# Altium footprint library BLDC_Footprint_Library.PcbLib: 16 footprints
Each footprint in its own frame and in the unit in brackets; x right, y up, seen from the top. Pads: shape width x height; smd on the part's side, far side on the other; paste and mask are expansions set on the pad; w line width, h text height; cw(c..) or ccw(c..) is an arc to the next point about the centre after c.
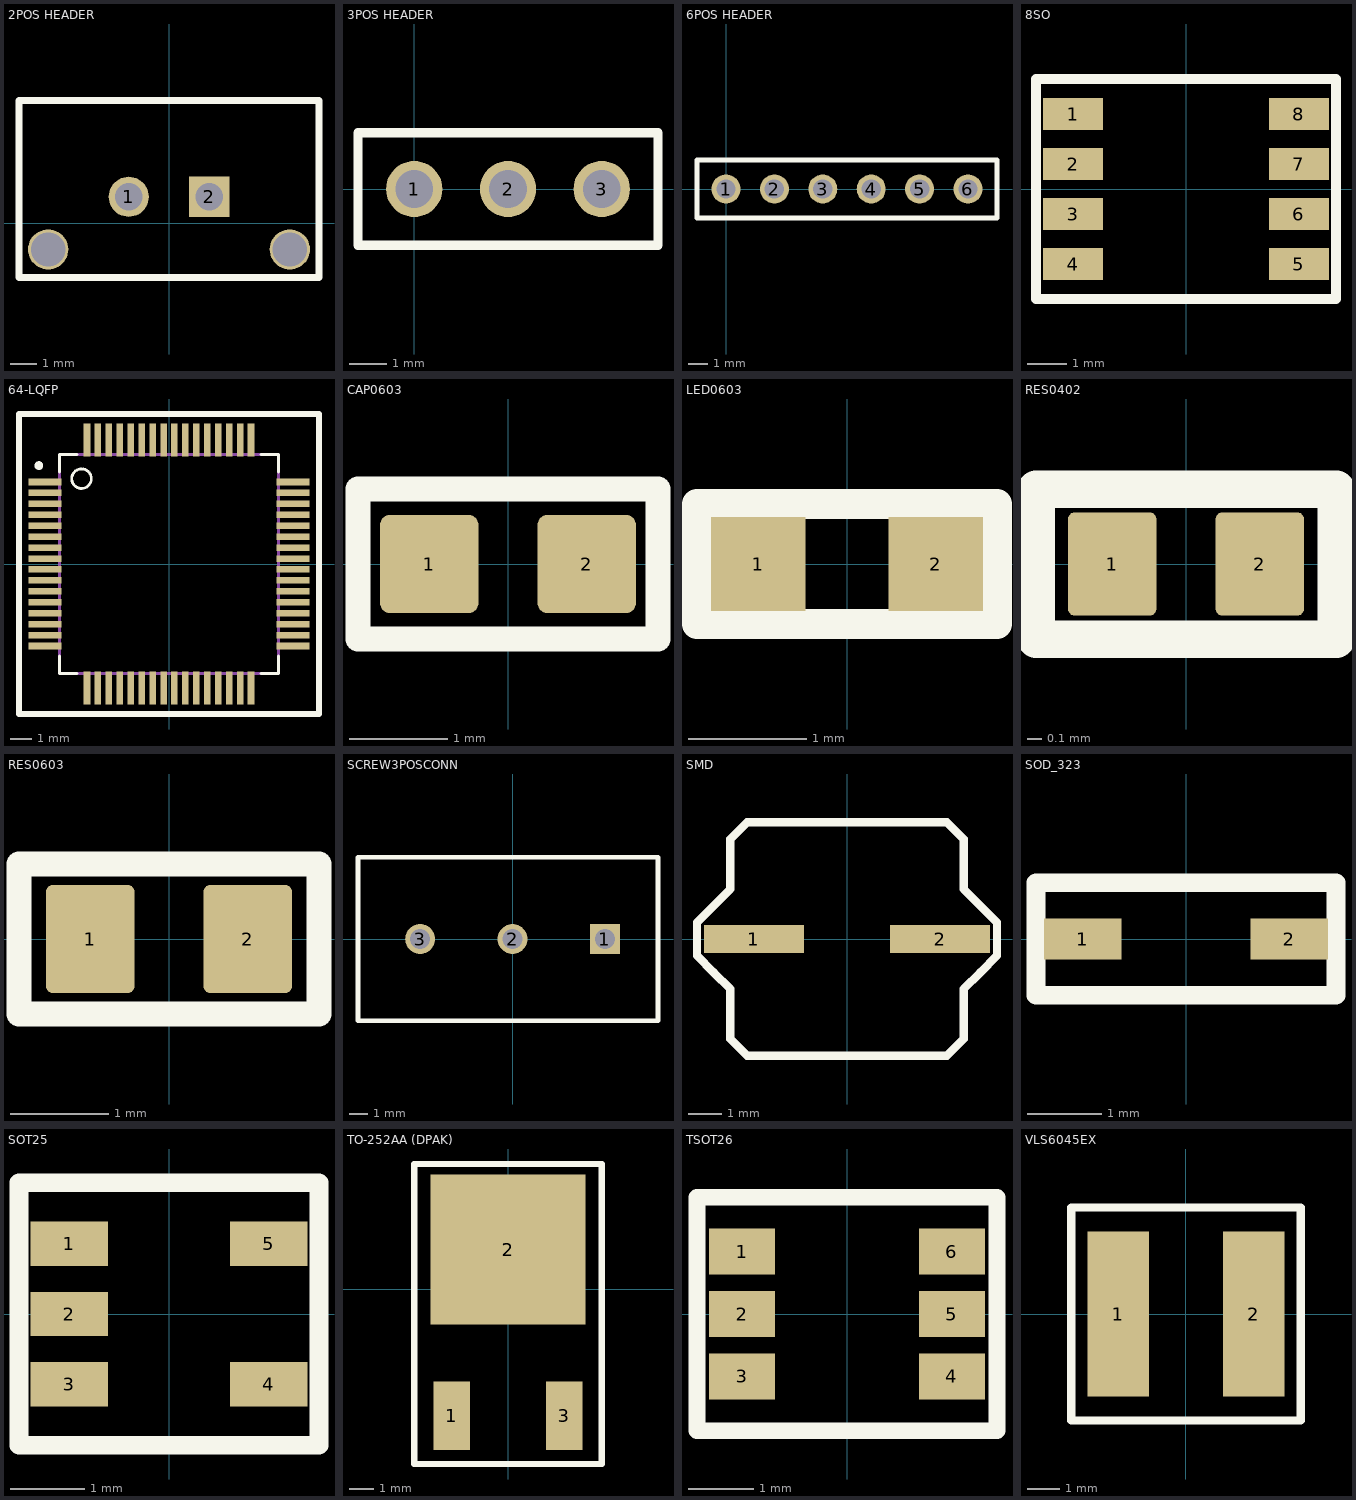
[diagram p0: the footprints below, top view; thin cyan lines are the x and y axes]

## 2POS HEADER [mm] "2 male connectors"
pads (4):
  round 1.5 hole 1.02: 1(-1.5,0.98)
  rect 1.5x1.5 hole 1.02: 2(1.5,0.98)
  round 1.5 hole 1.27: ""(-4.5,-0.98) ""(4.5,-0.98)
Top Overlay:
  lines w0.254: -5.588,-2.032 5.588,-2.032 5.588,4.572 -5.588,4.572 -5.588,-2.032
3D body "436500215.step": height 9.95, standoff -3.13, extent -4.825,-1.47 4.825,4.135

## 3POS HEADER [mil]
pads (3):
  round 60 hole 40.16: 1(0,0) 2(100,0) 3(200,0)
Top Overlay:
  lines w10: -60,-60 260,-60 260,60 -60,60 -60,-60
3D body "22-28-4033_MOL.step": height 450, standoff -200, extent -50,-49.02 250,49.02

## 6POS HEADER [mil] "CONN HEADER VERT 6POS 2.54MM"
pads (6):
  round 60 hole 40.16: 1(0,0) 2(100,0) 3(200,0) 4(300,0) 5(400,0) 6(500,0)
Top Overlay:
  lines w10: -60,-60 -60,60 560,60 560,-60 -60,-60
3D body "PH1-06-UA.step": height 334.65, standoff -120.08, extent -50,-49.21 550,49.21

## 8SO [mil] "Surface mount IC 6.5x4.612mm"
pads (8):
  rect 60x31.57 smd: 1(-112.95,75) 2(-112.95,25) 3(-112.95,-25) 4(-112.95,-75) 5(112.95,-75) 6(112.95,-25) 7(112.95,25) 8(112.95,75)
Top Overlay:
  lines w10: -150,-110 150,-110 150,110 -150,110 -150,-110
3D body "SO-8_STM.step": height 69.09, standoff 0, extent -122.01,-98.5 122.01,98.5

## 64-LQFP [mm]
pads (64):
  rect 1.5x0.3 smd: 1(-5.67,3.75) 2(-5.67,3.25) 3(-5.67,2.75) 4(-5.67,2.25) 5(-5.67,1.75) 6(-5.67,1.25) 7(-5.67,0.75) 8(-5.67,0.25) 9(-5.67,-0.25) 10(-5.67,-0.75) 11(-5.67,-1.25) 12(-5.67,-1.75) 13(-5.67,-2.25) 14(-5.67,-2.75) 15(-5.67,-3.25) 16(-5.67,-3.75) 33(5.67,-3.75) 34(5.67,-3.25) 35(5.67,-2.75) 36(5.67,-2.25) 37(5.67,-1.75) 38(5.67,-1.25) 39(5.67,-0.75) 40(5.67,-0.25) 41(5.67,0.25) 42(5.67,0.75) 43(5.67,1.25) 44(5.67,1.75) 45(5.67,2.25) 46(5.67,2.75) 47(5.67,3.25) 48(5.67,3.75)
  rect 0.3x1.5 smd: 17(-3.75,-5.67) 18(-3.25,-5.67) 19(-2.75,-5.67) 20(-2.25,-5.67) 21(-1.75,-5.67) 22(-1.25,-5.67) 23(-0.75,-5.67) 24(-0.25,-5.67) 25(0.25,-5.67) 26(0.75,-5.67) 27(1.25,-5.67) 28(1.75,-5.67) 29(2.25,-5.67) 30(2.75,-5.67) 31(3.25,-5.67) 32(3.75,-5.67) 49(3.75,5.67) 50(3.25,5.67) 51(2.75,5.67) 52(2.25,5.67) 53(1.75,5.67) 54(1.25,5.67) 55(0.75,5.67) 56(0.25,5.67) 57(-0.25,5.67) 58(-0.75,5.67) 59(-1.25,5.67) 60(-1.75,5.67) 61(-2.25,5.67) 62(-2.75,5.67) 63(-3.25,5.67) 64(-3.75,5.67)
Top Overlay:
  circle w0.127: c-4,3.9 r0.447
  circle w0.2: c-5.95,4.5 r0.1
  lines w0.127: -5,-4.2 -5,-5 -4.2,-5 ; -5,4.2 -5,5 -4.2,5 ; 4.2,-5 5,-5 5,-4.2 ; 4.2,5 5,5 5,4.2
  lines w0.254: -6.858,-6.858 -6.858,6.858 6.858,6.858 6.858,-6.858 -6.858,-6.858
Mechanical 13:
  lines w0.127: -5,-5 5,-5 5,5 -5,5 -5,-5
Mechanical 15:
  lines w0.05: -6.75,-6.75 6.75,-6.75 6.75,6.75 -6.75,6.75 -6.75,-6.75
3D body "STM32F401RET6.step": height 1.6, standoff 0, extent -6,-6 6,6

## CAP0603 [mm] "0.063\" L x 0.031\" W (1.60mm x 0.80mm)"
pads (2):
  rrect20% 1x1 smd: 1(-0.8,0) 2(0.8,0)
Top Overlay:
  lines w0.254: -1.524,-0.762 -1.524,0.762 1.524,0.762 1.524,-0.762 -1.524,-0.762
3D body "CAP_GCM188_MUR.step": height 0.89, standoff 0, extent -0.851,-0.444 0.851,0.444

## LED0603 [mm] "0603 LED"
pads (2):
  rect 0.8x0.8 smd: 1(-0.75,0) 2(0.75,0)
Top Overlay:
  lines w0.254: -1.27,-0.508 -1.27,0.508 1.27,0.508 1.27,-0.508 -1.27,-0.508
3D body "LED_B1911PG--20D000514U1930_HVK.step": height 0.61, standoff 0, extent -0.8,-0.406 0.8,0.406

## RES0402 [mm] "Chip Resistor, Body 1x0.5mm, IPC Medium Density"
pads (2):
  rrect15% 0.6x0.7 smd: 1(-0.5,0) 2(0.5,0)
Top Overlay:
  lines w0.254: -1.016,-0.508 1.016,-0.508 1.016,0.508 -1.016,0.508 -1.016,-0.508
3D body "User Library-R SMD 0402.STEP": height 0.27, standoff -0.08, extent -0.5,-0.25 0.5,0.25

## RES0603 [mm] "Chip Resistor, Body 1.6x0.8mm, IPC Medium Density"
height 0.6
pads (2):
  rrect15% 0.9x1.1 smd: 1(-0.8,0) 2(0.8,0)
Top Overlay:
  lines w0.254: -1.524,-0.762 1.524,-0.762 1.524,0.762 -1.524,0.762 -1.524,-0.762
3D body "0603.step": height 0.46, standoff 0.01, extent -0.8,-0.4 0.8,0.4

## SCREW3POSCONN [mm] "3 Position Wire to Board Terminal Block Horizontal with Board 0.200\" (5.08mm) Through Hole"
pads (3):
  rect 1.65x1.65 hole 1.1: 1(5.08,0)
  round 1.65 hole 1.1: 2(0,0) 3(-5.08,0)
Top Overlay:
  lines w0.254: -8.5,-4.5 -8.5,4.5 8,4.5 8,-4.5 -8.5,-4.5
3D body "282837-3.step": height 10.25, standoff -3.25, extent -8.22,-4 7.62,4.2

## SMD [mm] "0.260\" L x 0.260\" W (6.60mm x 6.60mm)"
pads (2):
  rect 3x0.85 smd: 1(-2.794,0) 2(2.794,0)
Top Overlay:
  lines w0.254: -4.5,-0.5 -4.5,0.5 -3.5,1.5 -3.5,3 -3,3.5 3,3.5 3.5,3 3.5,1.5 4.5,0.5 4.5,-0.5 4,-1 3.5,-1.5 3.5,-3 3,-3.5 -3,-3.5 -3.5,-3 -3.5,-1.5 -4,-1 -4.5,-0.5
3D body "EEE1VA101XP.step": height 7.7, standoff 0, extent -3.65,-3.3 3.65,3.3

## SOD_323 [mm] "Surface mount diode 1.05x0.55 mm"
pads (2):
  rect 1.05x0.55 smd: 1(-1.4,0) 2(1.4,0)
Top Overlay:
  lines w0.254: -2.032,-0.762 2.032,-0.762 2.032,0.762 -2.032,0.762 -2.032,-0.762
3D body "SOD-323FL_ONS.step": height 0.89, standoff 0, extent -1.35,-0.673 1.35,0.673

## SOT25 [mm]
pads (5):
  rect 1.05x0.6 smd: 1(-1.354,0.95) 2(-1.354,0) 3(-1.354,-0.95) 4(1.354,-0.95) 5(1.354,0.95)
Top Overlay:
  lines w0.254: -2.032,-1.778 2.032,-1.778 2.032,1.778 -2.032,1.778 -2.032,1.524 -2.032,-1.778
3D body "SOT25_DIO.step": height 1.45, standoff 0, extent -1.5,-1.55 1.5,1.55

## TO-252AA (DPAK) [mm] "Mofset Footprint"
pads (3):
  rect 1.5x2.8 smd: 1(-2.286,-5.15) 3(2.286,-5.15)
  rect 6.3x6.1 smd: 2(0,1.603)
Top Overlay:
  lines w0.254: -3.81,-7.112 3.81,-7.112 3.81,5.08 -3.81,5.08 -3.81,-7.112
3D body "D-PAK_IRLR7843TRPBF_INF.step": height 2.39, standoff -0.05, extent -3.366,-6.033 3.366,4.382

## TSOT26 [mm]
pads (6):
  rect 1x0.7 smd: 1(-1.6,0.95) 2(-1.6,0) 3(-1.6,-0.95) 4(1.6,-0.95) 5(1.6,0) 6(1.6,0.95)
Top Overlay:
  lines w0.254: -2.286,-1.778 2.286,-1.778 2.286,1.778 -2.286,1.778 -2.286,-1.778
3D body "TSOT26-WU_DIO.step": height 0.99, standoff 0, extent -1.499,-1.549 1.499,1.549

## VLS6045EX [mm] "0.236\" L x 0.236\" W (6.00mm x 6.00mm)"
pads (2):
  rect 1.9x5.1 smd: 1(-2.097,0) 2(2.097,0)
Top Overlay:
  lines w0.254: -3.556,-3.302 3.556,-3.302 3.556,3.302 -3.556,3.302 -3.556,-3.302
3D body "VLS6045EX-3R3N.step": height 4.5, standoff 0, extent -3,-3 3,3